# EAGLE library part OPAMP4_DEV (library OPAMP)
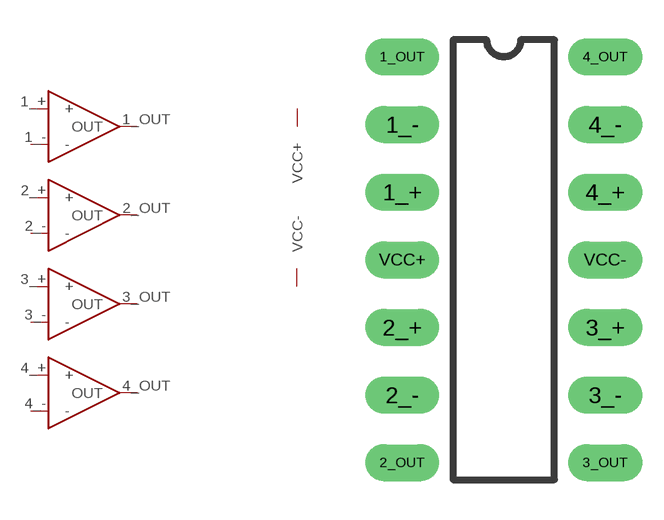
[diagram p0: symbol with the pads of OPAMP4_PAC; footprint OPAMP4_PAC]

Designator prefix -; gates G$1=OPAMP_SYM G$2=OPAMP_SYM G$3=OPAMP_SYM G$4=OPAMP_SYM G$5=OPAMP_PWR

## OPAMP4_DEV  [OPAMP4_PAC]
1_+  G$1:+  in
1_-  G$1:-  in
1_OUT  G$1:OUT  out
2_+  G$2:+  in
2_-  G$2:-  in
2_OUT  G$2:OUT  out
3_+  G$3:+  in
3_-  G$3:-  in
3_OUT  G$3:OUT  out
4_+  G$4:+  in
4_-  G$4:-  in
4_OUT  G$4:OUT  out
VCC+  G$5:VCC+  pwr
VCC-  G$5:VCC-  sup

## Footprint OPAMP4_PAC (pad centres in mm)
drill 0.889 pad 1.372 long: 1_+ 0,-7.62; 1_- 0,-5.08; 1_OUT 0,-2.54; 2_+ 0,-12.7; 2_- 0,-15.24; 2_OUT 0,-17.78; 3_+ 7.62,-12.7; 3_- 7.62,-15.24; 3_OUT 7.62,-17.78; 4_+ 7.62,-7.62; 4_- 7.62,-5.08; 4_OUT 7.62,-2.54; VCC+ 0,-10.16; VCC- 7.62,-10.16